# Altium integrated library Dallas Peripheral Real Time Clock.IntLib: 167 symbols (part 2 of 4)
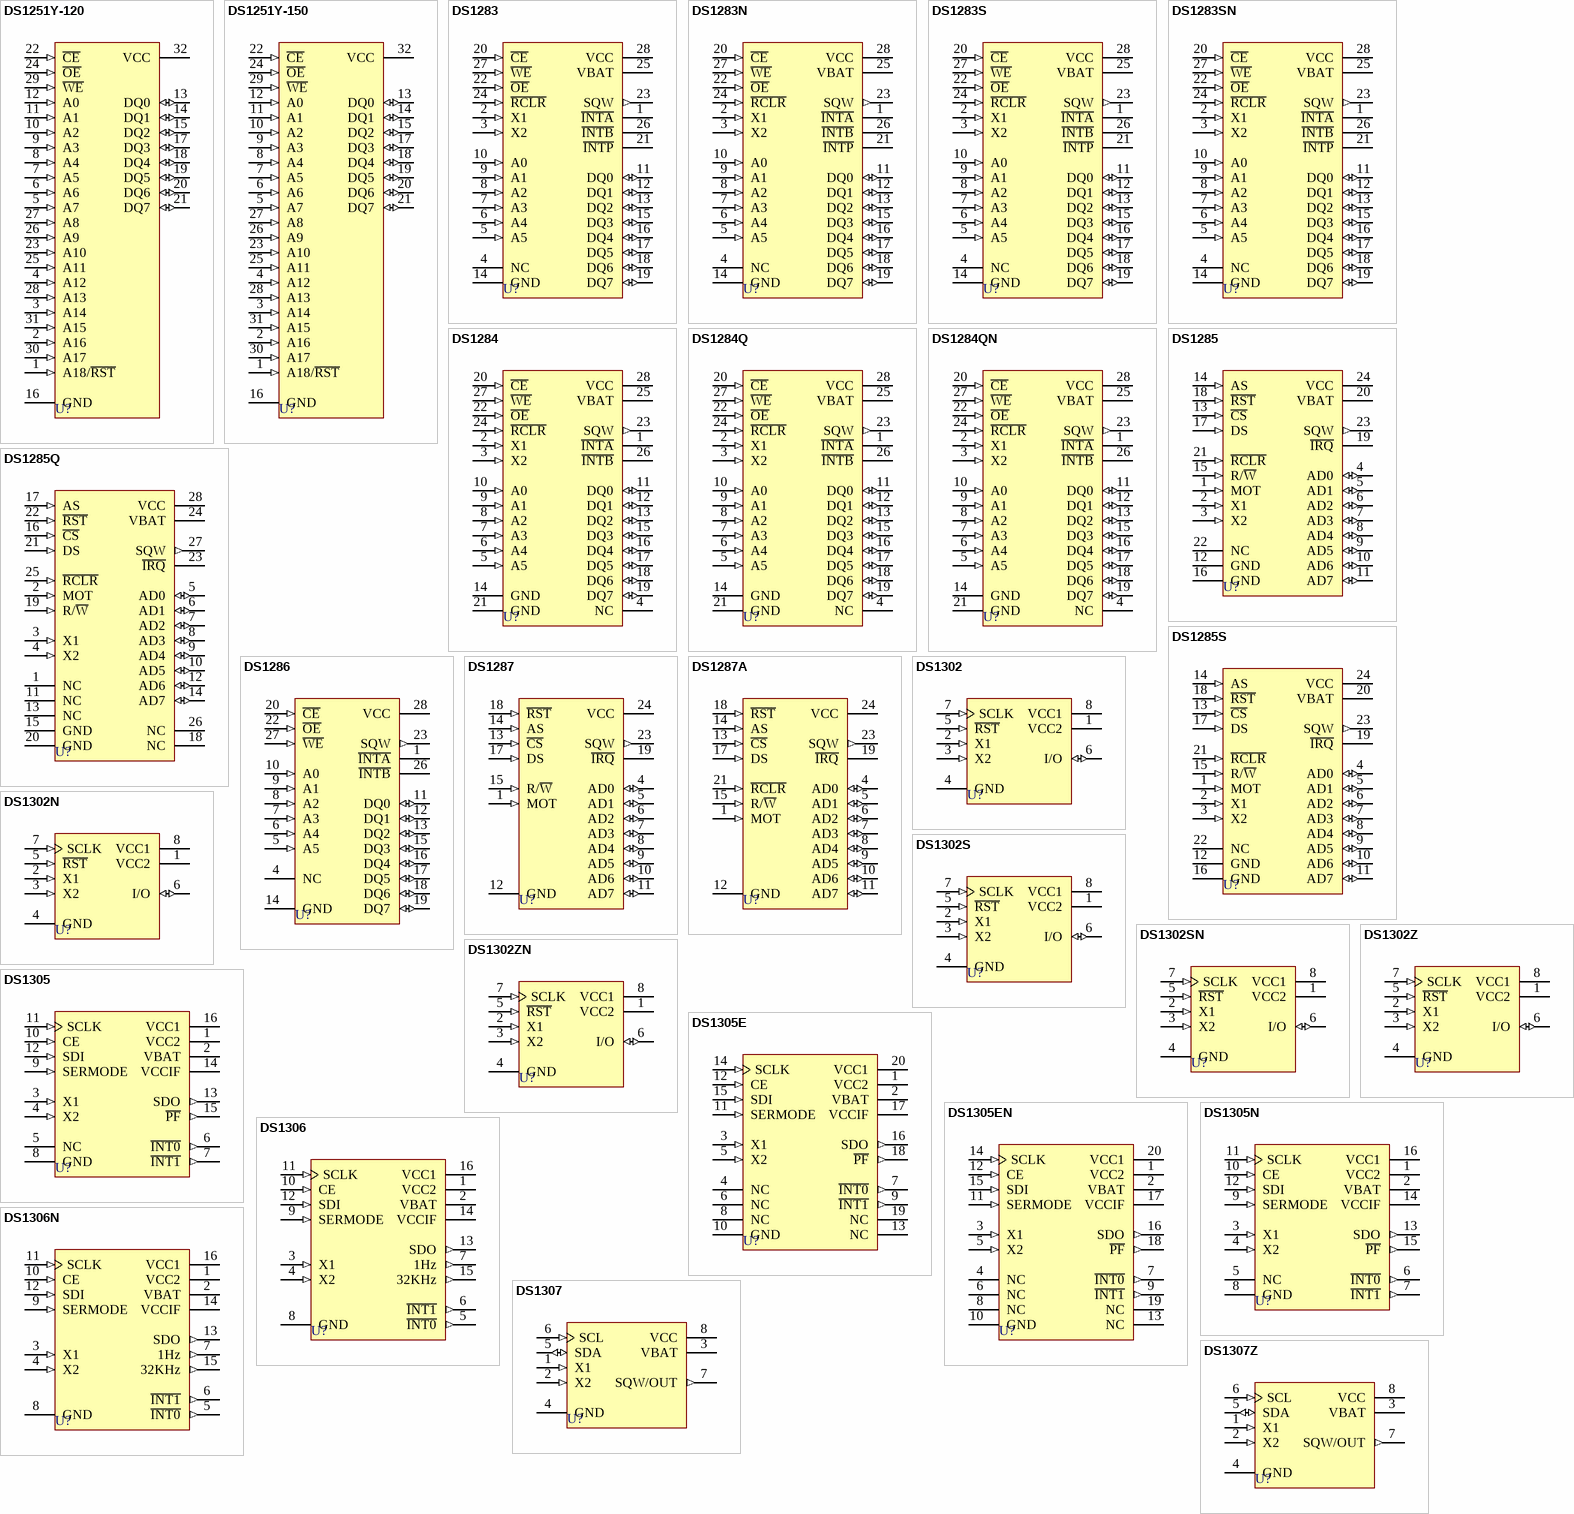
[diagram p6: symbols DS1251Y-120 to DS1307Z]

## DS1305E
designator U?
Serial Alarm Real-Time Clock; Note: Pin numbers 4, 6, 8, 13 and 19 are Not Connected (NC); Published: 13-Oct-2000; LatestRevisionDate: 06-Jun-2005; LatestRevisionNote: Stylized 3D Model Added.; DatasheetVersion: 10-Aug-1999; PackageReference: TSSOP20; Publisher: Altium Limited; PackageDescription: Shrink Small Outline; 20 Leads; Body Width 4.4 mm; Pitch 0.65 mm; ComponentLink1Description: Manufacturer Link; ComponentLink1URL: http://www.maxim-ic.com/; ComponentLink2Description: Datasheet; ComponentLink2URL: http://pdfserv.maxim-ic.com/en/ds/DS1305.pdf; ComponentLink3Description: Discontinuation Notice; ComponentLink3URL: http://www.maxim-ic.com/qa/pdfs/non-obsolescence-letter.pdf
footprint TSSOP20 (Shrink Small Outline; 20 Leads; Body Width 4.4 mm; Pitch 0.65 mm)
3D model TSSOP20 (Shrink Small Outline; 20 Leads; Body Width 4.4 mm; Pitch 0.65 mm)
pins: 1 VCC2 (power), 2 VBAT (power), 3 X1 (in), 4 NC, 5 X2 (in), 6 NC, 7 ~{INT0} (out), 8 NC, 9 ~{INT1} (out), 10 GND (power), 11 SERMODE (in), 12 CE (in), 13 NC, 14 SCLK (in), 15 SDI (in), 16 SDO (out), 17 VCCIF (power), 18 ~{PF} (out), 19 NC, 20 VCC1 (power)

## DS1305EN
designator U?
Serial Alarm Real-Time Clock; Note: Pin numbers 4, 6, 8, 13 and 19 are Not Connected (NC); Published: 13-Oct-2000; LatestRevisionDate: 06-Jun-2005; LatestRevisionNote: Stylized 3D Model Added.; DatasheetVersion: 10-Aug-1999; PackageReference: TSSOP20; Publisher: Altium Limited; PackageDescription: Shrink Small Outline; 20 Leads; Body Width 4.4 mm; Pitch 0.65 mm; ComponentLink1Description: Manufacturer Link; ComponentLink1URL: http://www.maxim-ic.com/; ComponentLink2Description: Datasheet; ComponentLink2URL: http://pdfserv.maxim-ic.com/en/ds/DS1305.pdf; ComponentLink3Description: Discontinuation Notice; ComponentLink3URL: http://www.maxim-ic.com/qa/pdfs/non-obsolescence-letter.pdf
footprint TSSOP20 (Shrink Small Outline; 20 Leads; Body Width 4.4 mm; Pitch 0.65 mm)
3D model TSSOP20 (Shrink Small Outline; 20 Leads; Body Width 4.4 mm; Pitch 0.65 mm)
pins: 1 VCC2 (power), 2 VBAT (power), 3 X1 (in), 4 NC, 5 X2 (in), 6 NC, 7 ~{INT0} (out), 8 NC, 9 ~{INT1} (out), 10 GND (power), 11 SERMODE (in), 12 CE (in), 13 NC, 14 SCLK (in), 15 SDI (in), 16 SDO (out), 17 VCCIF (power), 18 ~{PF} (out), 19 NC, 20 VCC1 (power)

## DS1305N
designator U?
Serial Alarm Real-Time Clock; Note: Pin number 5 is Not Connected (NC); Published: 13-Oct-2000; LatestRevisionDate: 06-Jun-2005; LatestRevisionNote: Stylized 3D Model Added.; DatasheetVersion: 10-Aug-1999; PackageVersion: 1999; PackageReference: DIP16; Publisher: Altium Limited; PackageDescription: DIP; 16 Leads; Row Spacing 7.62 mm; Pitch 2.54 mm; ComponentLink1Description: Manufacturer Link; ComponentLink1URL: http://www.maxim-ic.com/; ComponentLink2Description: Datasheet; ComponentLink2URL: http://pdfserv.maxim-ic.com/en/ds/DS1305.pdf; ComponentLink3Description: Discontinuation Notice; ComponentLink3URL: http://www.maxim-ic.com/qa/pdfs/non-obsolescence-letter.pdf
footprint DIP16 (DIP; 16 Leads; Row Spacing 7.62 mm; Pitch 2.54 mm)
3D model DIP16 (DIP; 16 Leads; Row Spacing 7.62 mm; Pitch 2.54 mm)
pins: 1 VCC2 (power), 2 VBAT (power), 3 X1 (in), 4 X2 (in), 5 NC, 6 ~{INT0} (out), 7 ~{INT1} (out), 8 GND (power), 9 SERMODE (in), 10 CE (in), 11 SCLK (in), 12 SDI (in), 13 SDO (out), 14 VCCIF (power), 15 ~{PF} (out), 16 VCC1 (power)

## DS1306
designator U?
Serial Alarm Real-Time Clock; Published: 13-Oct-2000; LatestRevisionDate: 06-Jun-2005; LatestRevisionNote: Stylized 3D Model Added.; DatasheetVersion: 20-Aug-1999; PackageVersion: 1999; PackageReference: DIP16; Publisher: Altium Limited; PackageDescription: DIP; 16 Leads; Row Spacing 7.62 mm; Pitch 2.54 mm; ComponentLink1Description: Manufacturer Link; ComponentLink1URL: http://www.maxim-ic.com/; ComponentLink2Description: Datasheet; ComponentLink2URL: http://pdfserv.maxim-ic.com/en/ds/DS1306.pdf; ComponentLink3Description: Discontinuation Notice; ComponentLink3URL: http://www.maxim-ic.com/qa/pdfs/non-obsolescence-letter.pdf
footprint DIP16 (DIP; 16 Leads; Row Spacing 7.62 mm; Pitch 2.54 mm)
3D model DIP16 (DIP; 16 Leads; Row Spacing 7.62 mm; Pitch 2.54 mm)
pins: 1 VCC2 (power), 2 VBAT (power), 3 X1 (in), 4 X2 (in), 5 ~{INT0} (out), 6 ~{INT1} (out), 7 1Hz (out), 8 GND (power), 9 SERMODE (in), 10 CE (in), 11 SCLK (in), 12 SDI (in), 13 SDO (out), 14 VCCIF (power), 15 32KHz (out), 16 VCC1 (power)

## DS1306N
designator U?
Serial Alarm Real-Time Clock; Published: 13-Oct-2000; LatestRevisionDate: 06-Jun-2005; LatestRevisionNote: Stylized 3D Model Added.; DatasheetVersion: 20-Aug-1999; PackageVersion: 1999; PackageReference: DIP16; Publisher: Altium Limited; PackageDescription: DIP; 16 Leads; Row Spacing 7.62 mm; Pitch 2.54 mm; ComponentLink1Description: Manufacturer Link; ComponentLink1URL: http://www.maxim-ic.com/; ComponentLink2Description: Datasheet; ComponentLink2URL: http://pdfserv.maxim-ic.com/en/ds/DS1306.pdf; ComponentLink3Description: Discontinuation Notice; ComponentLink3URL: http://www.maxim-ic.com/qa/pdfs/non-obsolescence-letter.pdf
footprint DIP16 (DIP; 16 Leads; Row Spacing 7.62 mm; Pitch 2.54 mm)
3D model DIP16 (DIP; 16 Leads; Row Spacing 7.62 mm; Pitch 2.54 mm)
pins: 1 VCC2 (power), 2 VBAT (power), 3 X1 (in), 4 X2 (in), 5 ~{INT0} (out), 6 ~{INT1} (out), 7 1Hz (out), 8 GND (power), 9 SERMODE (in), 10 CE (in), 11 SCLK (in), 12 SDI (in), 13 SDO (out), 14 VCCIF (power), 15 32KHz (out), 16 VCC1 (power)

## DS1307
designator U?
64 X 8 Serial Real-Time Clock; Published: 13-Oct-2000; LatestRevisionDate: 06-Jun-2005; LatestRevisionNote: Stylized 3D Model Added.; DatasheetVersion: 10-Aug-1999; PackageVersion: 1999; PackageReference: DIP8; Publisher: Altium Limited; PackageDescription: DIP; 8 Leads; Row Spacing 7.62 mm; Pitch 2.54 mm; ComponentLink1Description: Manufacturer Link; ComponentLink1URL: http://www.maxim-ic.com/; ComponentLink2Description: Datasheet; ComponentLink2URL: http://pdfserv.maxim-ic.com/en/ds/DS1307.pdf; ComponentLink3Description: Discontinuation Notice; ComponentLink3URL: http://www.maxim-ic.com/qa/pdfs/non-obsolescence-letter.pdf
footprint DIP8 (DIP; 8 Leads; Row Spacing 7.62 mm; Pitch 2.54 mm)
3D model DIP8 (DIP; 8 Leads; Row Spacing 7.62 mm; Pitch 2.54 mm)
pins: 1 X1 (in), 2 X2 (in), 3 VBAT (power), 4 GND (power), 5 SDA (io), 6 SCL (in), 7 SQW/OUT (out), 8 VCC (power)

## DS1307Z
designator U?
64 X 8 Serial Real-Time Clock; Published: 13-Oct-2000; LatestRevisionDate: 13-Apr-2006; LatestRevisionNote: IPC-7351 Footprint Added.; DatasheetVersion: 10-Aug-1999; PackageVersion: 1999; PackageReference: SOIC8N; Publisher: Altium Limited; PackageDescription: 8-Pin Small Outline Integrated Circuit 1.27 mm Pitch; Code_IPC: SOIC127P600-8; ComponentLink1Description: Manufacturer Link; ComponentLink1URL: http://www.maxim-ic.com/; ComponentLink2Description: Datasheet; ComponentLink2URL: http://pdfserv.maxim-ic.com/en/ds/DS1307.pdf; ComponentLink3Description: Discontinuation Notice; ComponentLink3URL: http://www.maxim-ic.com/qa/pdfs/non-obsolescence-letter.pdf
footprint SOIC8N_N (SOIC, 8-Leads, Body 4.9x3.9mm, Pitch 1.27mm, IPC Medium Density)
footprint SOIC8N_L (SOIC, 8-Leads, Body 4.9x3.9mm, Pitch 1.27mm, IPC High Density)
footprint SOIC8N_M (SOIC, 8-Leads, Body 4.9x3.9mm, Pitch 1.27mm, IPC Low Density)
3D model SOIC8N (8-Pin Small Outline Integrated Circuit 1.27 mm Pitch)
pins: 1 X1 (in), 2 X2 (in), 3 VBAT (power), 4 GND (power), 5 SDA (io), 6 SCL (in), 7 SQW/OUT (out), 8 VCC (power)

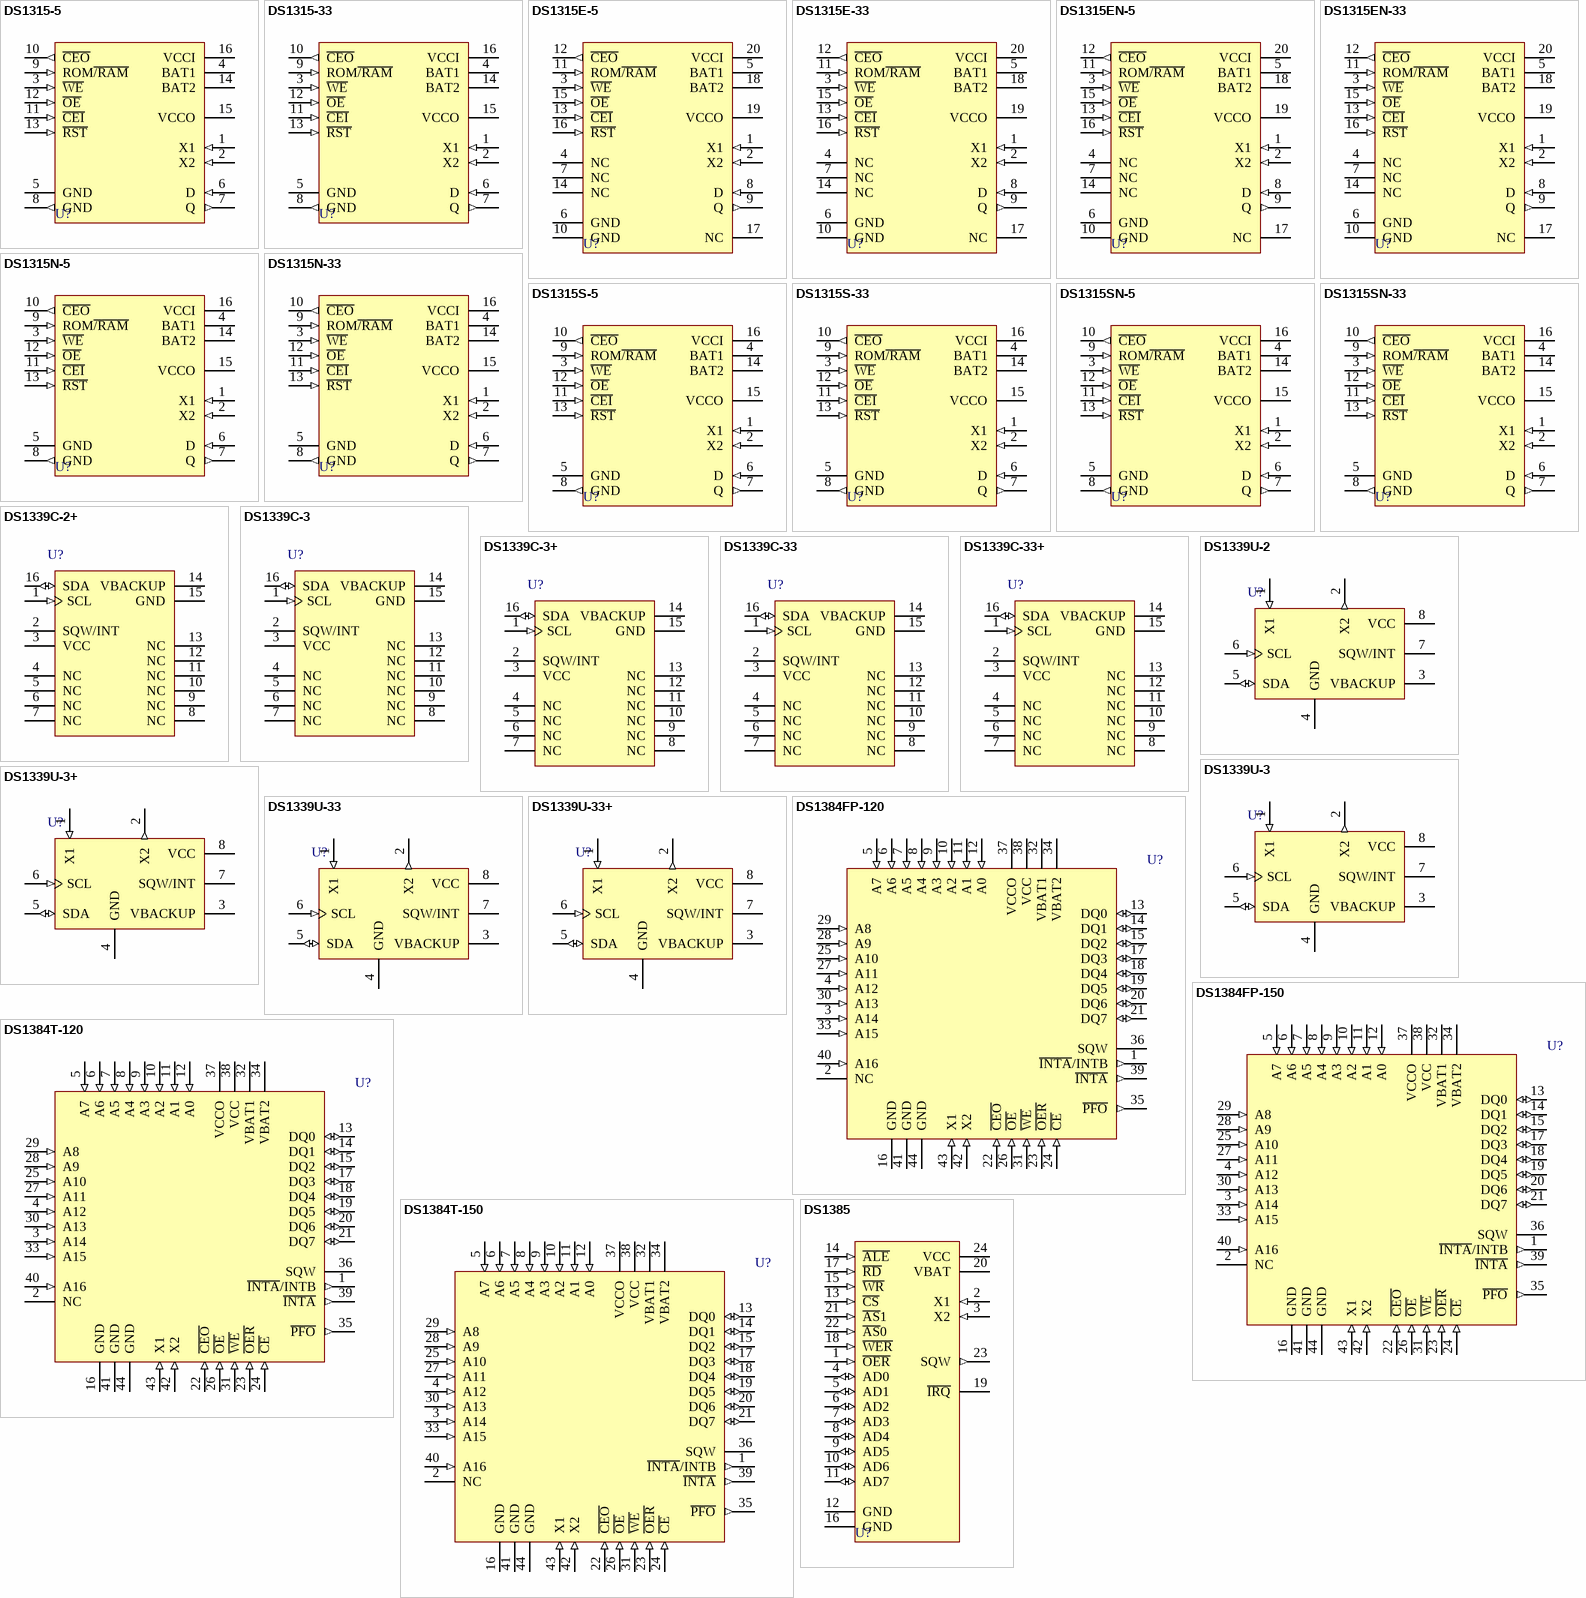
[diagram p2: symbols DS1315-5 to DS1385]

## DS1315-5
designator U?
Phantom Time Chip; Published: 13-Oct-2000; LatestRevisionDate: 06-Jun-2005; LatestRevisionNote: Stylized 3D Model Added.; DatasheetVersion: 26-Aug-1999; PackageVersion: 1999; PackageReference: DIP16; Publisher: Altium Limited; PackageDescription: DIP; 16 Leads; Row Spacing 7.62 mm; Pitch 2.54 mm; ComponentLink1Description: Manufacturer Link; ComponentLink1URL: http://www.maxim-ic.com/; ComponentLink2Description: Datasheet; ComponentLink2URL: http://pdfserv.maxim-ic.com/en/ds/DS1315.pdf
footprint DIP16 (DIP; 16 Leads; Row Spacing 7.62 mm; Pitch 2.54 mm)
3D model DIP16 (DIP; 16 Leads; Row Spacing 7.62 mm; Pitch 2.54 mm)
pins: 1 X1 (in), 2 X2 (in), 3 ~{WE} (in), 4 BAT1 (power), 5 GND (power), 6 D (in), 7 Q (out), 8 GND (out), 9 ROM~{/RAM} (in), 10 ~{CEO} (out), 11 ~{CEI} (in), 12 ~{OE} (in), 13 ~{RST} (in), 14 BAT2 (power), 15 VCCO (power), 16 VCCI (power)

## DS1315-33
designator U?
Phantom Time Chip; Published: 13-Oct-2000; LatestRevisionDate: 06-Jun-2005; LatestRevisionNote: Stylized 3D Model Added.; DatasheetVersion: 26-Aug-1999; PackageVersion: 1999; PackageReference: DIP16; Publisher: Altium Limited; PackageDescription: DIP; 16 Leads; Row Spacing 7.62 mm; Pitch 2.54 mm; ComponentLink1Description: Manufacturer Link; ComponentLink1URL: http://www.maxim-ic.com/; ComponentLink2Description: Datasheet; ComponentLink2URL: http://pdfserv.maxim-ic.com/en/ds/DS1315.pdf
footprint DIP16 (DIP; 16 Leads; Row Spacing 7.62 mm; Pitch 2.54 mm)
3D model DIP16 (DIP; 16 Leads; Row Spacing 7.62 mm; Pitch 2.54 mm)
pins: 1 X1 (in), 2 X2 (in), 3 ~{WE} (in), 4 BAT1 (power), 5 GND (power), 6 D (in), 7 Q (out), 8 GND (out), 9 ROM~{/RAM} (in), 10 ~{CEO} (out), 11 ~{CEI} (in), 12 ~{OE} (in), 13 ~{RST} (in), 14 BAT2 (power), 15 VCCO (power), 16 VCCI (power)

## DS1315E-5
designator U?
Phantom Time Chip; Note: Pin numbers 4, 7, 14 and 17 are Not Connected (NC); Published: 13-Oct-2000; LatestRevisionDate: 06-Jun-2005; LatestRevisionNote: Stylized 3D Model Added.; DatasheetVersion: 26-Aug-1999; PackageReference: TSSOP20; Publisher: Altium Limited; PackageDescription: Shrink Small Outline; 20 Leads; Body Width 4.4 mm; Pitch 0.65 mm; ComponentLink1Description: Manufacturer Link; ComponentLink1URL: http://www.maxim-ic.com/; ComponentLink2Description: Datasheet; ComponentLink2URL: http://pdfserv.maxim-ic.com/en/ds/DS1315.pdf
footprint TSSOP20 (Shrink Small Outline; 20 Leads; Body Width 4.4 mm; Pitch 0.65 mm)
3D model TSSOP20 (Shrink Small Outline; 20 Leads; Body Width 4.4 mm; Pitch 0.65 mm)
pins: 1 X1 (in), 2 X2 (in), 3 ~{WE} (in), 4 NC, 5 BAT1 (power), 6 GND (power), 7 NC, 8 D (in), 9 Q (out), 10 GND (power), 11 ROM~{/RAM} (in), 12 ~{CEO} (out), 13 ~{CEI} (in), 14 NC, 15 ~{OE} (in), 16 ~{RST} (in), 17 NC, 18 BAT2 (power), 19 VCCO (power), 20 VCCI (power)

## DS1315E-33
designator U?
Phantom Time Chip; Note: Pin numbers 4, 7, 14 and 17 are Not Connected (NC); Published: 13-Oct-2000; LatestRevisionDate: 06-Jun-2005; LatestRevisionNote: Stylized 3D Model Added.; DatasheetVersion: 26-Aug-1999; PackageReference: TSSOP20; Publisher: Altium Limited; PackageDescription: Shrink Small Outline; 20 Leads; Body Width 4.4 mm; Pitch 0.65 mm; ComponentLink1Description: Manufacturer Link; ComponentLink1URL: http://www.maxim-ic.com/; ComponentLink2Description: Datasheet; ComponentLink2URL: http://pdfserv.maxim-ic.com/en/ds/DS1315.pdf
footprint TSSOP20 (Shrink Small Outline; 20 Leads; Body Width 4.4 mm; Pitch 0.65 mm)
3D model TSSOP20 (Shrink Small Outline; 20 Leads; Body Width 4.4 mm; Pitch 0.65 mm)
pins: 1 X1 (in), 2 X2 (in), 3 ~{WE} (in), 4 NC, 5 BAT1 (power), 6 GND (power), 7 NC, 8 D (in), 9 Q (out), 10 GND (power), 11 ROM~{/RAM} (in), 12 ~{CEO} (out), 13 ~{CEI} (in), 14 NC, 15 ~{OE} (in), 16 ~{RST} (in), 17 NC, 18 BAT2 (power), 19 VCCO (power), 20 VCCI (power)

## DS1315EN-5
designator U?
Phantom Time Chip; Note: Pin numbers 4, 7, 14 and 17 are Not Connected (NC); Published: 13-Oct-2000; LatestRevisionDate: 06-Jun-2005; LatestRevisionNote: Stylized 3D Model Added.; DatasheetVersion: 26-Aug-1999; PackageReference: TSSOP20; Publisher: Altium Limited; PackageDescription: Shrink Small Outline; 20 Leads; Body Width 4.4 mm; Pitch 0.65 mm; ComponentLink1Description: Manufacturer Link; ComponentLink1URL: http://www.maxim-ic.com/; ComponentLink2Description: Datasheet; ComponentLink2URL: http://pdfserv.maxim-ic.com/en/ds/DS1315.pdf
footprint TSSOP20 (Shrink Small Outline; 20 Leads; Body Width 4.4 mm; Pitch 0.65 mm)
3D model TSSOP20 (Shrink Small Outline; 20 Leads; Body Width 4.4 mm; Pitch 0.65 mm)
pins: 1 X1 (in), 2 X2 (in), 3 ~{WE} (in), 4 NC, 5 BAT1 (power), 6 GND (power), 7 NC, 8 D (in), 9 Q (out), 10 GND (power), 11 ROM~{/RAM} (in), 12 ~{CEO} (out), 13 ~{CEI} (in), 14 NC, 15 ~{OE} (in), 16 ~{RST} (in), 17 NC, 18 BAT2 (power), 19 VCCO (power), 20 VCCI (power)

## DS1315EN-33
designator U?
Phantom Time Chip; Note: Pin numbers 4, 7, 14 and 17 are Not Connected (NC); Published: 13-Oct-2000; LatestRevisionDate: 06-Jun-2005; LatestRevisionNote: Stylized 3D Model Added.; DatasheetVersion: 26-Aug-1999; PackageReference: TSSOP20; Publisher: Altium Limited; PackageDescription: Shrink Small Outline; 20 Leads; Body Width 4.4 mm; Pitch 0.65 mm; ComponentLink1Description: Manufacturer Link; ComponentLink1URL: http://www.maxim-ic.com/; ComponentLink2Description: Datasheet; ComponentLink2URL: http://pdfserv.maxim-ic.com/en/ds/DS1315.pdf
footprint TSSOP20 (Shrink Small Outline; 20 Leads; Body Width 4.4 mm; Pitch 0.65 mm)
3D model TSSOP20 (Shrink Small Outline; 20 Leads; Body Width 4.4 mm; Pitch 0.65 mm)
pins: 1 X1 (in), 2 X2 (in), 3 ~{WE} (in), 4 NC, 5 BAT1 (power), 6 GND (power), 7 NC, 8 D (in), 9 Q (out), 10 GND (power), 11 ROM~{/RAM} (in), 12 ~{CEO} (out), 13 ~{CEI} (in), 14 NC, 15 ~{OE} (in), 16 ~{RST} (in), 17 NC, 18 BAT2 (power), 19 VCCO (power), 20 VCCI (power)

## DS1315N-5
designator U?
Phantom Time Chip; Published: 13-Oct-2000; LatestRevisionDate: 06-Jun-2005; LatestRevisionNote: Stylized 3D Model Added.; DatasheetVersion: 26-Aug-1999; PackageVersion: 1999; PackageReference: DIP16; Publisher: Altium Limited; PackageDescription: DIP; 16 Leads; Row Spacing 7.62 mm; Pitch 2.54 mm; ComponentLink1Description: Manufacturer Link; ComponentLink1URL: http://www.maxim-ic.com/; ComponentLink2Description: Datasheet; ComponentLink2URL: http://pdfserv.maxim-ic.com/en/ds/DS1315.pdf
footprint DIP16 (DIP; 16 Leads; Row Spacing 7.62 mm; Pitch 2.54 mm)
3D model DIP16 (DIP; 16 Leads; Row Spacing 7.62 mm; Pitch 2.54 mm)
pins: 1 X1 (in), 2 X2 (in), 3 ~{WE} (in), 4 BAT1 (power), 5 GND (power), 6 D (in), 7 Q (out), 8 GND (out), 9 ROM~{/RAM} (in), 10 ~{CEO} (out), 11 ~{CEI} (in), 12 ~{OE} (in), 13 ~{RST} (in), 14 BAT2 (power), 15 VCCO (power), 16 VCCI (power)

## DS1315N-33
designator U?
Phantom Time Chip; Published: 13-Oct-2000; LatestRevisionDate: 06-Jun-2005; LatestRevisionNote: Stylized 3D Model Added.; DatasheetVersion: 26-Aug-1999; PackageVersion: 1999; PackageReference: DIP16; Publisher: Altium Limited; PackageDescription: DIP; 16 Leads; Row Spacing 7.62 mm; Pitch 2.54 mm; ComponentLink1Description: Manufacturer Link; ComponentLink1URL: http://www.maxim-ic.com/; ComponentLink2Description: Datasheet; ComponentLink2URL: http://pdfserv.maxim-ic.com/en/ds/DS1315.pdf
footprint DIP16 (DIP; 16 Leads; Row Spacing 7.62 mm; Pitch 2.54 mm)
3D model DIP16 (DIP; 16 Leads; Row Spacing 7.62 mm; Pitch 2.54 mm)
pins: 1 X1 (in), 2 X2 (in), 3 ~{WE} (in), 4 BAT1 (power), 5 GND (power), 6 D (in), 7 Q (out), 8 GND (out), 9 ROM~{/RAM} (in), 10 ~{CEO} (out), 11 ~{CEI} (in), 12 ~{OE} (in), 13 ~{RST} (in), 14 BAT2 (power), 15 VCCO (power), 16 VCCI (power)

## DS1315S-5
designator U?
Phantom Time Chip; Published: 13-Oct-2000; LatestRevisionDate: 13-Apr-2006; LatestRevisionNote: IPC-7351 Footprint Added.; DatasheetVersion: 26-Aug-1999; PackageVersion: 1994; PackageReference: SOIC16WA; Publisher: Altium Limited; PackageDescription: 16-Pin Small Outline Integrated Circuit 1.27 mm Pitch; ComponentLink1Description: Manufacturer Link; ComponentLink1URL: http://www.maxim-ic.com/; ComponentLink2Description: Datasheet; ComponentLink2URL: http://pdfserv.maxim-ic.com/en/ds/DS1315.pdf
footprint SOIC16WA_N (SOIC, 16-Leads, Body 10.3x7.5mm, Pitch 1.27mm, IPC Medium Density)
footprint SOIC16WA_L (SOIC, 16-Leads, Body 10.3x7.5mm, Pitch 1.27mm, IPC High Density)
footprint SOIC16WA_M (SOIC, 16-Leads, Body 10.3x7.5mm, Pitch 1.27mm, IPC Low Density)
3D model SOIC16WA (16-Pin Small Outline Integrated Circuit 1.27 mm Pitch)
pins: 1 X1 (in), 2 X2 (in), 3 ~{WE} (in), 4 BAT1 (power), 5 GND (power), 6 D (in), 7 Q (out), 8 GND (out), 9 ROM~{/RAM} (in), 10 ~{CEO} (out), 11 ~{CEI} (in), 12 ~{OE} (in), 13 ~{RST} (in), 14 BAT2 (power), 15 VCCO (power), 16 VCCI (power)

## DS1315S-33
designator U?
Phantom Time Chip; Published: 13-Oct-2000; LatestRevisionDate: 13-Apr-2006; LatestRevisionNote: IPC-7351 Footprint Added.; DatasheetVersion: 26-Aug-1999; PackageVersion: 1994; PackageReference: SOIC16WA; Publisher: Altium Limited; PackageDescription: 16-Pin Small Outline Integrated Circuit 1.27 mm Pitch; ComponentLink1Description: Manufacturer Link; ComponentLink1URL: http://www.maxim-ic.com/; ComponentLink2Description: Datasheet; ComponentLink2URL: http://pdfserv.maxim-ic.com/en/ds/DS1315.pdf
footprint SOIC16WA_N (SOIC, 16-Leads, Body 10.3x7.5mm, Pitch 1.27mm, IPC Medium Density)
footprint SOIC16WA_L (SOIC, 16-Leads, Body 10.3x7.5mm, Pitch 1.27mm, IPC High Density)
footprint SOIC16WA_M (SOIC, 16-Leads, Body 10.3x7.5mm, Pitch 1.27mm, IPC Low Density)
3D model SOIC16WA (16-Pin Small Outline Integrated Circuit 1.27 mm Pitch)
pins: 1 X1 (in), 2 X2 (in), 3 ~{WE} (in), 4 BAT1 (power), 5 GND (power), 6 D (in), 7 Q (out), 8 GND (out), 9 ROM~{/RAM} (in), 10 ~{CEO} (out), 11 ~{CEI} (in), 12 ~{OE} (in), 13 ~{RST} (in), 14 BAT2 (power), 15 VCCO (power), 16 VCCI (power)

## DS1315SN-5
designator U?
Phantom Time Chip; Published: 13-Oct-2000; LatestRevisionDate: 13-Apr-2006; LatestRevisionNote: IPC-7351 Footprint Added.; DatasheetVersion: 26-Aug-1999; PackageVersion: 1994; PackageReference: SOIC16WA; Publisher: Altium Limited; PackageDescription: 16-Pin Small Outline Integrated Circuit 1.27 mm Pitch; ComponentLink1Description: Manufacturer Link; ComponentLink1URL: http://www.maxim-ic.com/; ComponentLink2Description: Datasheet; ComponentLink2URL: http://pdfserv.maxim-ic.com/en/ds/DS1315.pdf
footprint SOIC16WA_N (SOIC, 16-Leads, Body 10.3x7.5mm, Pitch 1.27mm, IPC Medium Density)
footprint SOIC16WA_L (SOIC, 16-Leads, Body 10.3x7.5mm, Pitch 1.27mm, IPC High Density)
footprint SOIC16WA_M (SOIC, 16-Leads, Body 10.3x7.5mm, Pitch 1.27mm, IPC Low Density)
3D model SOIC16WA (16-Pin Small Outline Integrated Circuit 1.27 mm Pitch)
pins: 1 X1 (in), 2 X2 (in), 3 ~{WE} (in), 4 BAT1 (power), 5 GND (power), 6 D (in), 7 Q (out), 8 GND (out), 9 ROM~{/RAM} (in), 10 ~{CEO} (out), 11 ~{CEI} (in), 12 ~{OE} (in), 13 ~{RST} (in), 14 BAT2 (power), 15 VCCO (power), 16 VCCI (power)

## DS1315SN-33
designator U?
Phantom Time Chip; Published: 13-Oct-2000; LatestRevisionDate: 13-Apr-2006; LatestRevisionNote: IPC-7351 Footprint Added.; DatasheetVersion: 26-Aug-1999; PackageVersion: 1994; PackageReference: SOIC16WA; Publisher: Altium Limited; PackageDescription: 16-Pin Small Outline Integrated Circuit 1.27 mm Pitch; ComponentLink1Description: Manufacturer Link; ComponentLink1URL: http://www.maxim-ic.com/; ComponentLink2Description: Datasheet; ComponentLink2URL: http://pdfserv.maxim-ic.com/en/ds/DS1315.pdf
footprint SOIC16WA_N (SOIC, 16-Leads, Body 10.3x7.5mm, Pitch 1.27mm, IPC Medium Density)
footprint SOIC16WA_L (SOIC, 16-Leads, Body 10.3x7.5mm, Pitch 1.27mm, IPC High Density)
footprint SOIC16WA_M (SOIC, 16-Leads, Body 10.3x7.5mm, Pitch 1.27mm, IPC Low Density)
3D model SOIC16WA (16-Pin Small Outline Integrated Circuit 1.27 mm Pitch)
pins: 1 X1 (in), 2 X2 (in), 3 ~{WE} (in), 4 BAT1 (power), 5 GND (power), 6 D (in), 7 Q (out), 8 GND (out), 9 ROM~{/RAM} (in), 10 ~{CEO} (out), 11 ~{CEI} (in), 12 ~{OE} (in), 13 ~{RST} (in), 14 BAT2 (power), 15 VCCO (power), 16 VCCI (power)

## DS1339C-2+
designator U?
I2C Serial Real-Time Clock (RTC) with Integrated Crystal, 2.0V, 16-Pin 0.3" SOIC, Pb-Free; Published: 6-Oct-2005; LatestRevisionDate: 13-Apr-2006; LatestRevisionNote: IPC-7351 Footprint Added.; DatasheetVersion: rev.071205; PackageVersion: Jul-2002; PackageReference: 16SO.300; Publisher: Altium Limited; PackageDescription: 16-Pin Small Outline Integrated Circuit 1.27 mm Pitch; Code_JEDEC: MS-013-AA; Code_IPC: SOIC127P1030-16; ComponentLink1Description: Manufacturer Link; ComponentLink1URL: http://www.maxim-ic.com/quick_view2.cfm/qv_pk/3470; ComponentLink2Description: Datasheet; ComponentLink2URL: http://pdfserv.maxim-ic.com/en/ds/DS1339-DS1339U.pdf
footprint 16SO.300_N (SOIC, 16-Leads, Body 10.3x7.5mm, Pitch 1.27mm, IPC Medium Density)
footprint 16SO.300_L (SOIC, 16-Leads, Body 10.3x7.5mm, Pitch 1.27mm, IPC High Density)
footprint 16SO.300_M (SOIC, 16-Leads, Body 10.3x7.5mm, Pitch 1.27mm, IPC Low Density)
3D model 16SO_300 (16-Pin Small Outline Integrated Circuit 1.27 mm Pitch)
pins: 1 SCL (in) "Serial Clock Input", 2 SQW/INT (oc) "Square-Wave/Interrupt Output. Requires external pullup resistor.", 3 VCC (power) "Power Supply", 4 NC "Not Connected", 5 NC "Not Connected", 6 NC "Not Connected", 7 NC "Not Connected", 8 NC "Not Connected", 9 NC "Not Connected", 10 NC "Not Connected", 11 NC "Not Connected", 12 NC "Not Connected", 13 NC "Not Connected", 14 VBACKUP (power) "Secondary Power Supply. Hold between 1.3 & 3.7V. Ground if not required.", 15 GND (power) "Ground", 16 SDA (io) "Serial Data Input/Output. Requires external pullup resistor."

## DS1339C-3
designator U?
I2C Serial Real-Time Clock (RTC) with Integrated Crystal, 3.0V, 16-Pin 0.3" SOIC; Published: 6-Oct-2005; LatestRevisionDate: 13-Apr-2006; LatestRevisionNote: IPC-7351 Footprint Added.; DatasheetVersion: rev.071205; PackageVersion: Jul-2002; PackageReference: 16SO.300; Publisher: Altium Limited; PackageDescription: 16-Pin Small Outline Integrated Circuit 1.27 mm Pitch; Code_JEDEC: MS-013-AA; Code_IPC: SOIC127P1030-16; ComponentLink1Description: Manufacturer Link; ComponentLink1URL: http://www.maxim-ic.com/quick_view2.cfm/qv_pk/3470; ComponentLink2Description: Datasheet; ComponentLink2URL: http://pdfserv.maxim-ic.com/en/ds/DS1339-DS1339U.pdf
footprint 16SO.300_N (SOIC, 16-Leads, Body 10.3x7.5mm, Pitch 1.27mm, IPC Medium Density)
footprint 16SO.300_L (SOIC, 16-Leads, Body 10.3x7.5mm, Pitch 1.27mm, IPC High Density)
footprint 16SO.300_M (SOIC, 16-Leads, Body 10.3x7.5mm, Pitch 1.27mm, IPC Low Density)
3D model 16SO_300 (16-Pin Small Outline Integrated Circuit 1.27 mm Pitch)
pins: 1 SCL (in) "Serial Clock Input", 2 SQW/INT (oc) "Square-Wave/Interrupt Output. Requires external pullup resistor.", 3 VCC (power) "Power Supply", 4 NC "Not Connected", 5 NC "Not Connected", 6 NC "Not Connected", 7 NC "Not Connected", 8 NC "Not Connected", 9 NC "Not Connected", 10 NC "Not Connected", 11 NC "Not Connected", 12 NC "Not Connected", 13 NC "Not Connected", 14 VBACKUP (power) "Secondary Power Supply. Hold between 1.3 & 3.7V. Ground if not required.", 15 GND (power) "Ground", 16 SDA (io) "Serial Data Input/Output. Requires external pullup resistor."

## DS1339C-3+
designator U?
I2C Serial Real-Time Clock (RTC) with Integrated Crystal, 3.0V, 16-Pin 0.3" SOIC, Pb-Free; Published: 6-Oct-2005; LatestRevisionDate: 13-Apr-2006; LatestRevisionNote: IPC-7351 Footprint Added.; DatasheetVersion: rev.071205; PackageVersion: Jul-2002; PackageReference: 16SO.300; Publisher: Altium Limited; PackageDescription: 16-Pin Small Outline Integrated Circuit 1.27 mm Pitch; Code_JEDEC: MS-013-AA; Code_IPC: SOIC127P1030-16; ComponentLink1Description: Manufacturer Link; ComponentLink1URL: http://www.maxim-ic.com/quick_view2.cfm/qv_pk/3470; ComponentLink2Description: Datasheet; ComponentLink2URL: http://pdfserv.maxim-ic.com/en/ds/DS1339-DS1339U.pdf
footprint 16SO.300_N (SOIC, 16-Leads, Body 10.3x7.5mm, Pitch 1.27mm, IPC Medium Density)
footprint 16SO.300_L (SOIC, 16-Leads, Body 10.3x7.5mm, Pitch 1.27mm, IPC High Density)
footprint 16SO.300_M (SOIC, 16-Leads, Body 10.3x7.5mm, Pitch 1.27mm, IPC Low Density)
3D model 16SO_300 (16-Pin Small Outline Integrated Circuit 1.27 mm Pitch)
pins: 1 SCL (in) "Serial Clock Input", 2 SQW/INT (oc) "Square-Wave/Interrupt Output. Requires external pullup resistor.", 3 VCC (power) "Power Supply", 4 NC "Not Connected", 5 NC "Not Connected", 6 NC "Not Connected", 7 NC "Not Connected", 8 NC "Not Connected", 9 NC "Not Connected", 10 NC "Not Connected", 11 NC "Not Connected", 12 NC "Not Connected", 13 NC "Not Connected", 14 VBACKUP (power) "Secondary Power Supply. Hold between 1.3 & 3.7V. Ground if not required.", 15 GND (power) "Ground", 16 SDA (io) "Serial Data Input/Output. Requires external pullup resistor."

## DS1339C-33
designator U?
I2C Serial Real-Time Clock (RTC) with Integrated Crystal, 3.3V, 16-Pin 0.3" SOIC; Published: 6-Oct-2005; LatestRevisionDate: 13-Apr-2006; LatestRevisionNote: IPC-7351 Footprint Added.; DatasheetVersion: rev.071205; PackageVersion: Jul-2002; PackageReference: 16SO.300; Publisher: Altium Limited; PackageDescription: 16-Pin Small Outline Integrated Circuit 1.27 mm Pitch; Code_JEDEC: MS-013-AA; Code_IPC: SOIC127P1030-16; ComponentLink1Description: Manufacturer Link; ComponentLink1URL: http://www.maxim-ic.com/quick_view2.cfm/qv_pk/3470; ComponentLink2Description: Datasheet; ComponentLink2URL: http://pdfserv.maxim-ic.com/en/ds/DS1339-DS1339U.pdf
footprint 16SO.300_N (SOIC, 16-Leads, Body 10.3x7.5mm, Pitch 1.27mm, IPC Medium Density)
footprint 16SO.300_L (SOIC, 16-Leads, Body 10.3x7.5mm, Pitch 1.27mm, IPC High Density)
footprint 16SO.300_M (SOIC, 16-Leads, Body 10.3x7.5mm, Pitch 1.27mm, IPC Low Density)
3D model 16SO_300 (16-Pin Small Outline Integrated Circuit 1.27 mm Pitch)
pins: 1 SCL (in) "Serial Clock Input", 2 SQW/INT (oc) "Square-Wave/Interrupt Output. Requires external pullup resistor.", 3 VCC (power) "Power Supply", 4 NC "Not Connected", 5 NC "Not Connected", 6 NC "Not Connected", 7 NC "Not Connected", 8 NC "Not Connected", 9 NC "Not Connected", 10 NC "Not Connected", 11 NC "Not Connected", 12 NC "Not Connected", 13 NC "Not Connected", 14 VBACKUP (power) "Secondary Power Supply. Hold between 1.3 & 3.7V. Ground if not required.", 15 GND (power) "Ground", 16 SDA (io) "Serial Data Input/Output. Requires external pullup resistor."

## DS1339C-33+
designator U?
I2C Serial Real-Time Clock (RTC) with Integrated Crystal, 3.3V, 16-Pin 0.3" SOIC, Pb-Free; Published: 6-Oct-2005; LatestRevisionDate: 13-Apr-2006; LatestRevisionNote: IPC-7351 Footprint Added.; DatasheetVersion: rev.071205; PackageVersion: Jul-2002; PackageReference: 16SO.300; Publisher: Altium Limited; PackageDescription: 16-Pin Small Outline Integrated Circuit 1.27 mm Pitch; Code_JEDEC: MS-013-AA; Code_IPC: SOIC127P1030-16; ComponentLink1Description: Manufacturer Link; ComponentLink1URL: http://www.maxim-ic.com/quick_view2.cfm/qv_pk/3470; ComponentLink2Description: Datasheet; ComponentLink2URL: http://pdfserv.maxim-ic.com/en/ds/DS1339-DS1339U.pdf
footprint 16SO.300_N (SOIC, 16-Leads, Body 10.3x7.5mm, Pitch 1.27mm, IPC Medium Density)
footprint 16SO.300_L (SOIC, 16-Leads, Body 10.3x7.5mm, Pitch 1.27mm, IPC High Density)
footprint 16SO.300_M (SOIC, 16-Leads, Body 10.3x7.5mm, Pitch 1.27mm, IPC Low Density)
3D model 16SO_300 (16-Pin Small Outline Integrated Circuit 1.27 mm Pitch)
pins: 1 SCL (in) "Serial Clock Input", 2 SQW/INT (oc) "Square-Wave/Interrupt Output. Requires external pullup resistor.", 3 VCC (power) "Power Supply", 4 NC "Not Connected", 5 NC "Not Connected", 6 NC "Not Connected", 7 NC "Not Connected", 8 NC "Not Connected", 9 NC "Not Connected", 10 NC "Not Connected", 11 NC "Not Connected", 12 NC "Not Connected", 13 NC "Not Connected", 14 VBACKUP (power) "Secondary Power Supply. Hold between 1.3 & 3.7V. Ground if not required.", 15 GND (power) "Ground", 16 SDA (io) "Serial Data Input/Output. Requires external pullup resistor."

## DS1339U-2
designator U?
I2C Serial Real-Time Clock (RTC), 2.0V, 8-Pin uMax/uSOP; Published: 6-Oct-2005; DatasheetVersion: rev.071205; PackageVersion: Mar-2002; PackageReference: 8uSOP; Publisher: Altium Limited; PackageDescription: Shrink Small Outline; 8 Leads; Body Width 3 mm; Pitch 0.65 mm; Code_JEDEC: MO-187C-AA; ComponentLink1Description: Manufacturer Link; ComponentLink1URL: http://www.maxim-ic.com/quick_view2.cfm/qv_pk/3470; ComponentLink2Description: Datasheet; ComponentLink2URL: http://pdfserv.maxim-ic.com/en/ds/DS1339-DS1339U.pdf
footprint 8uSOP (Shrink Small Outline; 8 Leads; Body Width 3 mm; Pitch 0.65 mm)
3D model 8uSOP (Shrink Small Outline; 8 Leads; Body Width 3 mm; Pitch 0.65 mm)
pins: 1 X1 (in) "Connection for 32.768kHz Quartz Crystal or external oscillator.", 2 X2 (out) "Connection for 32.768kHz Quartz Crystal.", 3 VBACKUP (power) "Secondary Power Supply. Hold between 1.3 & 3.7V. Ground if not required.", 4 GND (power) "Ground", 5 SDA (io) "Serial Data Input/Output. Requires external pullup resistor.", 6 SCL (in) "Serial Clock Input", 7 SQW/INT (oc) "Square-Wave/Interrupt Output. Requires external pullup resistor.", 8 VCC (power) "Power Supply"

## DS1339U-3
designator U?
I2C Serial Real-Time Clock (RTC), 3.0V, 8-Pin uMax/uSOP; Published: 6-Oct-2005; DatasheetVersion: rev.071205; PackageVersion: Mar-2002; PackageReference: 8uSOP; Publisher: Altium Limited; PackageDescription: Shrink Small Outline; 8 Leads; Body Width 3 mm; Pitch 0.65 mm; Code_JEDEC: MO-187C-AA; ComponentLink1Description: Manufacturer Link; ComponentLink1URL: http://www.maxim-ic.com/quick_view2.cfm/qv_pk/3470; ComponentLink2Description: Datasheet; ComponentLink2URL: http://pdfserv.maxim-ic.com/en/ds/DS1339-DS1339U.pdf
footprint 8uSOP (Shrink Small Outline; 8 Leads; Body Width 3 mm; Pitch 0.65 mm)
3D model 8uSOP (Shrink Small Outline; 8 Leads; Body Width 3 mm; Pitch 0.65 mm)
pins: 1 X1 (in) "Connection for 32.768kHz Quartz Crystal or external oscillator.", 2 X2 (out) "Connection for 32.768kHz Quartz Crystal.", 3 VBACKUP (power) "Secondary Power Supply. Hold between 1.3 & 3.7V. Ground if not required.", 4 GND (power) "Ground", 5 SDA (io) "Serial Data Input/Output. Requires external pullup resistor.", 6 SCL (in) "Serial Clock Input", 7 SQW/INT (oc) "Square-Wave/Interrupt Output. Requires external pullup resistor.", 8 VCC (power) "Power Supply"

## DS1339U-3+
designator U?
I2C Serial Real-Time Clock (RTC), 3.0V, 8-Pin uMax/uSOP, Pb-Free; Published: 6-Oct-2005; DatasheetVersion: rev.071205; PackageVersion: Mar-2002; PackageReference: 8uSOP; Publisher: Altium Limited; PackageDescription: Shrink Small Outline; 8 Leads; Body Width 3 mm; Pitch 0.65 mm; Code_JEDEC: MO-187C-AA; ComponentLink1Description: Manufacturer Link; ComponentLink1URL: http://www.maxim-ic.com/quick_view2.cfm/qv_pk/3470; ComponentLink2Description: Datasheet; ComponentLink2URL: http://pdfserv.maxim-ic.com/en/ds/DS1339-DS1339U.pdf
footprint 8uSOP (Shrink Small Outline; 8 Leads; Body Width 3 mm; Pitch 0.65 mm)
3D model 8uSOP (Shrink Small Outline; 8 Leads; Body Width 3 mm; Pitch 0.65 mm)
pins: 1 X1 (in) "Connection for 32.768kHz Quartz Crystal or external oscillator.", 2 X2 (out) "Connection for 32.768kHz Quartz Crystal.", 3 VBACKUP (power) "Secondary Power Supply. Hold between 1.3 & 3.7V. Ground if not required.", 4 GND (power) "Ground", 5 SDA (io) "Serial Data Input/Output. Requires external pullup resistor.", 6 SCL (in) "Serial Clock Input", 7 SQW/INT (oc) "Square-Wave/Interrupt Output. Requires external pullup resistor.", 8 VCC (power) "Power Supply"

## DS1339U-33
designator U?
I2C Serial Real-Time Clock (RTC), 3.3V, 8-Pin uMax/uSOP; Published: 6-Oct-2005; DatasheetVersion: rev.071205; PackageVersion: Mar-2002; PackageReference: 8uSOP; Publisher: Altium Limited; PackageDescription: Shrink Small Outline; 8 Leads; Body Width 3 mm; Pitch 0.65 mm; Code_JEDEC: MO-187C-AA; ComponentLink1Description: Manufacturer Link; ComponentLink1URL: http://www.maxim-ic.com/quick_view2.cfm/qv_pk/3470; ComponentLink2Description: Datasheet; ComponentLink2URL: http://pdfserv.maxim-ic.com/en/ds/DS1339-DS1339U.pdf
footprint 8uSOP (Shrink Small Outline; 8 Leads; Body Width 3 mm; Pitch 0.65 mm)
3D model 8uSOP (Shrink Small Outline; 8 Leads; Body Width 3 mm; Pitch 0.65 mm)
pins: 1 X1 (in) "Connection for 32.768kHz Quartz Crystal or external oscillator.", 2 X2 (out) "Connection for 32.768kHz Quartz Crystal.", 3 VBACKUP (power) "Secondary Power Supply. Hold between 1.3 & 3.7V. Ground if not required.", 4 GND (power) "Ground", 5 SDA (io) "Serial Data Input/Output. Requires external pullup resistor.", 6 SCL (in) "Serial Clock Input", 7 SQW/INT (oc) "Square-Wave/Interrupt Output. Requires external pullup resistor.", 8 VCC (power) "Power Supply"

## DS1339U-33+
designator U?
I2C Serial Real-Time Clock (RTC), 3.3V, 8-Pin uMax/uSOP, Pb-Free; Published: 6-Oct-2005; DatasheetVersion: rev.071205; PackageVersion: Mar-2002; PackageReference: 8uSOP; Publisher: Altium Limited; PackageDescription: Shrink Small Outline; 8 Leads; Body Width 3 mm; Pitch 0.65 mm; Code_JEDEC: MO-187C-AA; ComponentLink1Description: Manufacturer Link; ComponentLink1URL: http://www.maxim-ic.com/quick_view2.cfm/qv_pk/3470; ComponentLink2Description: Datasheet; ComponentLink2URL: http://pdfserv.maxim-ic.com/en/ds/DS1339-DS1339U.pdf
footprint 8uSOP (Shrink Small Outline; 8 Leads; Body Width 3 mm; Pitch 0.65 mm)
3D model 8uSOP (Shrink Small Outline; 8 Leads; Body Width 3 mm; Pitch 0.65 mm)
pins: 1 X1 (in) "Connection for 32.768kHz Quartz Crystal or external oscillator.", 2 X2 (out) "Connection for 32.768kHz Quartz Crystal.", 3 VBACKUP (power) "Secondary Power Supply. Hold between 1.3 & 3.7V. Ground if not required.", 4 GND (power) "Ground", 5 SDA (io) "Serial Data Input/Output. Requires external pullup resistor.", 6 SCL (in) "Serial Clock Input", 7 SQW/INT (oc) "Square-Wave/Interrupt Output. Requires external pullup resistor.", 8 VCC (power) "Power Supply"

## DS1384FP-120
designator U?
Watchdog Timekeeping Controller; Note: Pin number 2 is Not Connected (NC); Published: 13-Oct-2000; LatestRevisionDate: 13-Apr-2006; LatestRevisionNote: IPC-7351 Footprint Added.; DatasheetVersion: 5-Apr-1999; PackageReference: MQFP44NA; Publisher: Altium Limited; PackageDescription: 44-Pin Quad Flat Pack 0.8 mm Pitch; ComponentLink1Description: Manufacturer Link; ComponentLink1URL: http://www.maxim-ic.com/; ComponentLink2Description: Datasheet; ComponentLink2URL: http://pdfserv.maxim-ic.com/en/ds/DS1384.pdf; ComponentLink3Description: Discontinuation Notice; ComponentLink3URL: http://www.maxim-ic.com/qa/pdfs/non-obsolescence-letter.pdf
footprint MQFP44NA_N (QFP, 44-Leads, Body 10x10mm, Pitch 0.8mm, IPC Medium Density)
footprint MQFP44NA_L (QFP, 44-Leads, Body 10x10mm, Pitch 0.8mm, IPC High Density)
footprint MQFP44NA_M (QFP, 44-Leads, Body 10x10mm, Pitch 0.8mm, IPC Low Density)
3D model DS1384-MQFP44NA (44-Pin Quad Flat Pack 0.8 mm Pitch)
pins: 1 ~{INTA}/INTB (out), 2 NC, 3 A14 (in), 4 A12 (in), 5 A7 (in), 6 A6 (in), 7 A5 (in), 8 A4 (in), 9 A3 (in), 10 A2 (in), 11 A1 (in), 12 A0 (in), 13 DQ0 (io), 14 DQ1 (io), 15 DQ2 (io), 16 GND (power), 17 DQ3 (io), 18 DQ4 (io), 19 DQ5 (io), 20 DQ6 (io), 21 DQ7 (io), 22 ~{CEO} (in), 23 ~{OER} (in), 24 ~{CE} (in), 25 A10 (in), 26 ~{OE} (in), 27 A11 (in), 28 A9 (in), 29 A8 (in), 30 A13 (in), 31 ~{WE} (in), 32 VBAT1 (power), 33 A15 (in), 34 VBAT2 (power), 35 ~{PFO} (out), 36 SQW (hiz), 37 VCCO (power), 38 VCC (power), 39 ~{INTA} (out), 40 A16 (in), 41 GND (power), 42 X2 (in), 43 X1 (in), 44 GND (power)

## DS1384FP-150
designator U?
Watchdog Timekeeping Controller; Note: Pin number 2 is Not Connected (NC); Published: 13-Oct-2000; LatestRevisionDate: 13-Apr-2006; LatestRevisionNote: IPC-7351 Footprint Added.; DatasheetVersion: 5-Apr-1999; PackageReference: MQFP44NA; Publisher: Altium Limited; PackageDescription: 44-Pin Quad Flat Pack 0.8 mm Pitch; ComponentLink1Description: Manufacturer Link; ComponentLink1URL: http://www.maxim-ic.com/; ComponentLink2Description: Datasheet; ComponentLink2URL: http://pdfserv.maxim-ic.com/en/ds/DS1384.pdf; ComponentLink3Description: Discontinuation Notice; ComponentLink3URL: http://www.maxim-ic.com/qa/pdfs/non-obsolescence-letter.pdf
footprint MQFP44NA_N (QFP, 44-Leads, Body 10x10mm, Pitch 0.8mm, IPC Medium Density)
footprint MQFP44NA_L (QFP, 44-Leads, Body 10x10mm, Pitch 0.8mm, IPC High Density)
footprint MQFP44NA_M (QFP, 44-Leads, Body 10x10mm, Pitch 0.8mm, IPC Low Density)
3D model DS1384-MQFP44NA (44-Pin Quad Flat Pack 0.8 mm Pitch)
pins: 1 ~{INTA}/INTB (out), 2 NC, 3 A14 (in), 4 A12 (in), 5 A7 (in), 6 A6 (in), 7 A5 (in), 8 A4 (in), 9 A3 (in), 10 A2 (in), 11 A1 (in), 12 A0 (in), 13 DQ0 (io), 14 DQ1 (io), 15 DQ2 (io), 16 GND (power), 17 DQ3 (io), 18 DQ4 (io), 19 DQ5 (io), 20 DQ6 (io), 21 DQ7 (io), 22 ~{CEO} (in), 23 ~{OER} (in), 24 ~{CE} (in), 25 A10 (in), 26 ~{OE} (in), 27 A11 (in), 28 A9 (in), 29 A8 (in), 30 A13 (in), 31 ~{WE} (in), 32 VBAT1 (power), 33 A15 (in), 34 VBAT2 (power), 35 ~{PFO} (out), 36 SQW (hiz), 37 VCCO (power), 38 VCC (power), 39 ~{INTA} (out), 40 A16 (in), 41 GND (power), 42 X2 (in), 43 X1 (in), 44 GND (power)

## DS1384T-120
designator U?
Watchdog Timekeeping Controller; Note: Pin number 2 is Not Connected (NC); Published: 13-Oct-2000; LatestRevisionDate: 13-Apr-2006; LatestRevisionNote: IPC-7351 Footprint Added.; DatasheetVersion: 18-Aug-1995; PackageVersion: 1995; PackageReference: TQFP44; Publisher: Altium Limited; PackageDescription: 44-Pin Thin Quad Flat Pack 0.8 mm Pitch; ComponentLink1Description: Manufacturer Link; ComponentLink1URL: http://www.maxim-ic.com/; ComponentLink2Description: Datasheet; ComponentLink2URL: http://pdfserv.maxim-ic.com/en/ds/DS1384_C.pdf; ComponentLink3Description: Discontinuation Notice; ComponentLink3URL: http://www.maxim-ic.com/qa/pdfs/non-obsolescence-letter.pdf
footprint TQFP44_N (Thin QFP, 44-Leads, Body 10x10mm, Pitch 0.8mm, IPC Medium Density)
footprint TQFP44_L (Thin QFP, 44-Leads, Body 10x10mm, Pitch 0.8mm, IPC High Density)
footprint TQFP44_M (Thin QFP, 44-Leads, Body 10x10mm, Pitch 0.8mm, IPC Low Density)
3D model DS1384-TQFP44 (44-Pin Thin Quad Flat Pack 0.8 mm Pitch)
pins: 1 ~{INTA}/INTB (out), 2 NC, 3 A14 (in), 4 A12 (in), 5 A7 (in), 6 A6 (in), 7 A5 (in), 8 A4 (in), 9 A3 (in), 10 A2 (in), 11 A1 (in), 12 A0 (in), 13 DQ0 (io), 14 DQ1 (io), 15 DQ2 (io), 16 GND (power), 17 DQ3 (io), 18 DQ4 (io), 19 DQ5 (io), 20 DQ6 (io), 21 DQ7 (io), 22 ~{CEO} (in), 23 ~{OER} (in), 24 ~{CE} (in), 25 A10 (in), 26 ~{OE} (in), 27 A11 (in), 28 A9 (in), 29 A8 (in), 30 A13 (in), 31 ~{WE} (in), 32 VBAT1 (power), 33 A15 (in), 34 VBAT2 (power), 35 ~{PFO} (out), 36 SQW (hiz), 37 VCCO (power), 38 VCC (power), 39 ~{INTA} (out), 40 A16 (in), 41 GND (power), 42 X2 (in), 43 X1 (in), 44 GND (power)

## DS1384T-150
designator U?
Watchdog Timekeeping Controller; Note: Pin number 2 is Not Connected (NC); Published: 13-Oct-2000; LatestRevisionDate: 13-Apr-2006; LatestRevisionNote: IPC-7351 Footprint Added.; DatasheetVersion: 18-Aug-1995; PackageVersion: 1995; PackageReference: TQFP44; Publisher: Altium Limited; PackageDescription: 44-Pin Thin Quad Flat Pack 0.8 mm Pitch; ComponentLink1Description: Manufacturer Link; ComponentLink1URL: http://www.maxim-ic.com/; ComponentLink2Description: Datasheet; ComponentLink2URL: http://pdfserv.maxim-ic.com/en/ds/DS1384_C.pdf; ComponentLink3Description: Discontinuation Notice; ComponentLink3URL: http://www.maxim-ic.com/qa/pdfs/non-obsolescence-letter.pdf
footprint TQFP44_N (Thin QFP, 44-Leads, Body 10x10mm, Pitch 0.8mm, IPC Medium Density)
footprint TQFP44_L (Thin QFP, 44-Leads, Body 10x10mm, Pitch 0.8mm, IPC High Density)
footprint TQFP44_M (Thin QFP, 44-Leads, Body 10x10mm, Pitch 0.8mm, IPC Low Density)
3D model DS1384-TQFP44 (44-Pin Thin Quad Flat Pack 0.8 mm Pitch)
pins: 1 ~{INTA}/INTB (out), 2 NC, 3 A14 (in), 4 A12 (in), 5 A7 (in), 6 A6 (in), 7 A5 (in), 8 A4 (in), 9 A3 (in), 10 A2 (in), 11 A1 (in), 12 A0 (in), 13 DQ0 (io), 14 DQ1 (io), 15 DQ2 (io), 16 GND (power), 17 DQ3 (io), 18 DQ4 (io), 19 DQ5 (io), 20 DQ6 (io), 21 DQ7 (io), 22 ~{CEO} (in), 23 ~{OER} (in), 24 ~{CE} (in), 25 A10 (in), 26 ~{OE} (in), 27 A11 (in), 28 A9 (in), 29 A8 (in), 30 A13 (in), 31 ~{WE} (in), 32 VBAT1 (power), 33 A15 (in), 34 VBAT2 (power), 35 ~{PFO} (out), 36 SQW (hiz), 37 VCCO (power), 38 VCC (power), 39 ~{INTA} (out), 40 A16 (in), 41 GND (power), 42 X2 (in), 43 X1 (in), 44 GND (power)

## DS1385
designator U?
RAMified Real-Time Clock 4K X 8; Published: 13-Oct-2000; LatestRevisionDate: 06-Jun-2005; LatestRevisionNote: Stylized 3D Model Added.; DatasheetVersion: 8-May-1998; PackageVersion: 1999; PackageReference: DIP24W; Publisher: Altium Limited; PackageDescription: DIP; 24 Leads; Row Spacing 15.24 mm; Pitch 2.54 mm; ComponentLink1Description: Manufacturer Link; ComponentLink1URL: http://www.maxim-ic.com/
footprint DIP24W (DIP; 24 Leads; Row Spacing 15.24 mm; Pitch 2.54 mm)
3D model DIP24W (DIP; 24 Leads; Row Spacing 15.24 mm; Pitch 2.54 mm)
pins: 1 ~{OER} (in), 2 X1 (in), 3 X2 (in), 4 AD0 (io), 5 AD1 (io), 6 AD2 (io), 7 AD3 (io), 8 AD4 (io), 9 AD5 (io), 10 AD6 (io), 11 AD7 (io), 12 GND (power), 13 ~{CS} (in), 14 ~{ALE} (in), 15 ~{WR} (in), 16 GND (power), 17 ~{RD} (in), 18 ~{WER} (in), 19 ~{IRQ} (oc), 20 VBAT (power), 21 ~{AS}1 (in), 22 ~{AS}0 (in), 23 SQW (out), 24 VCC (power)

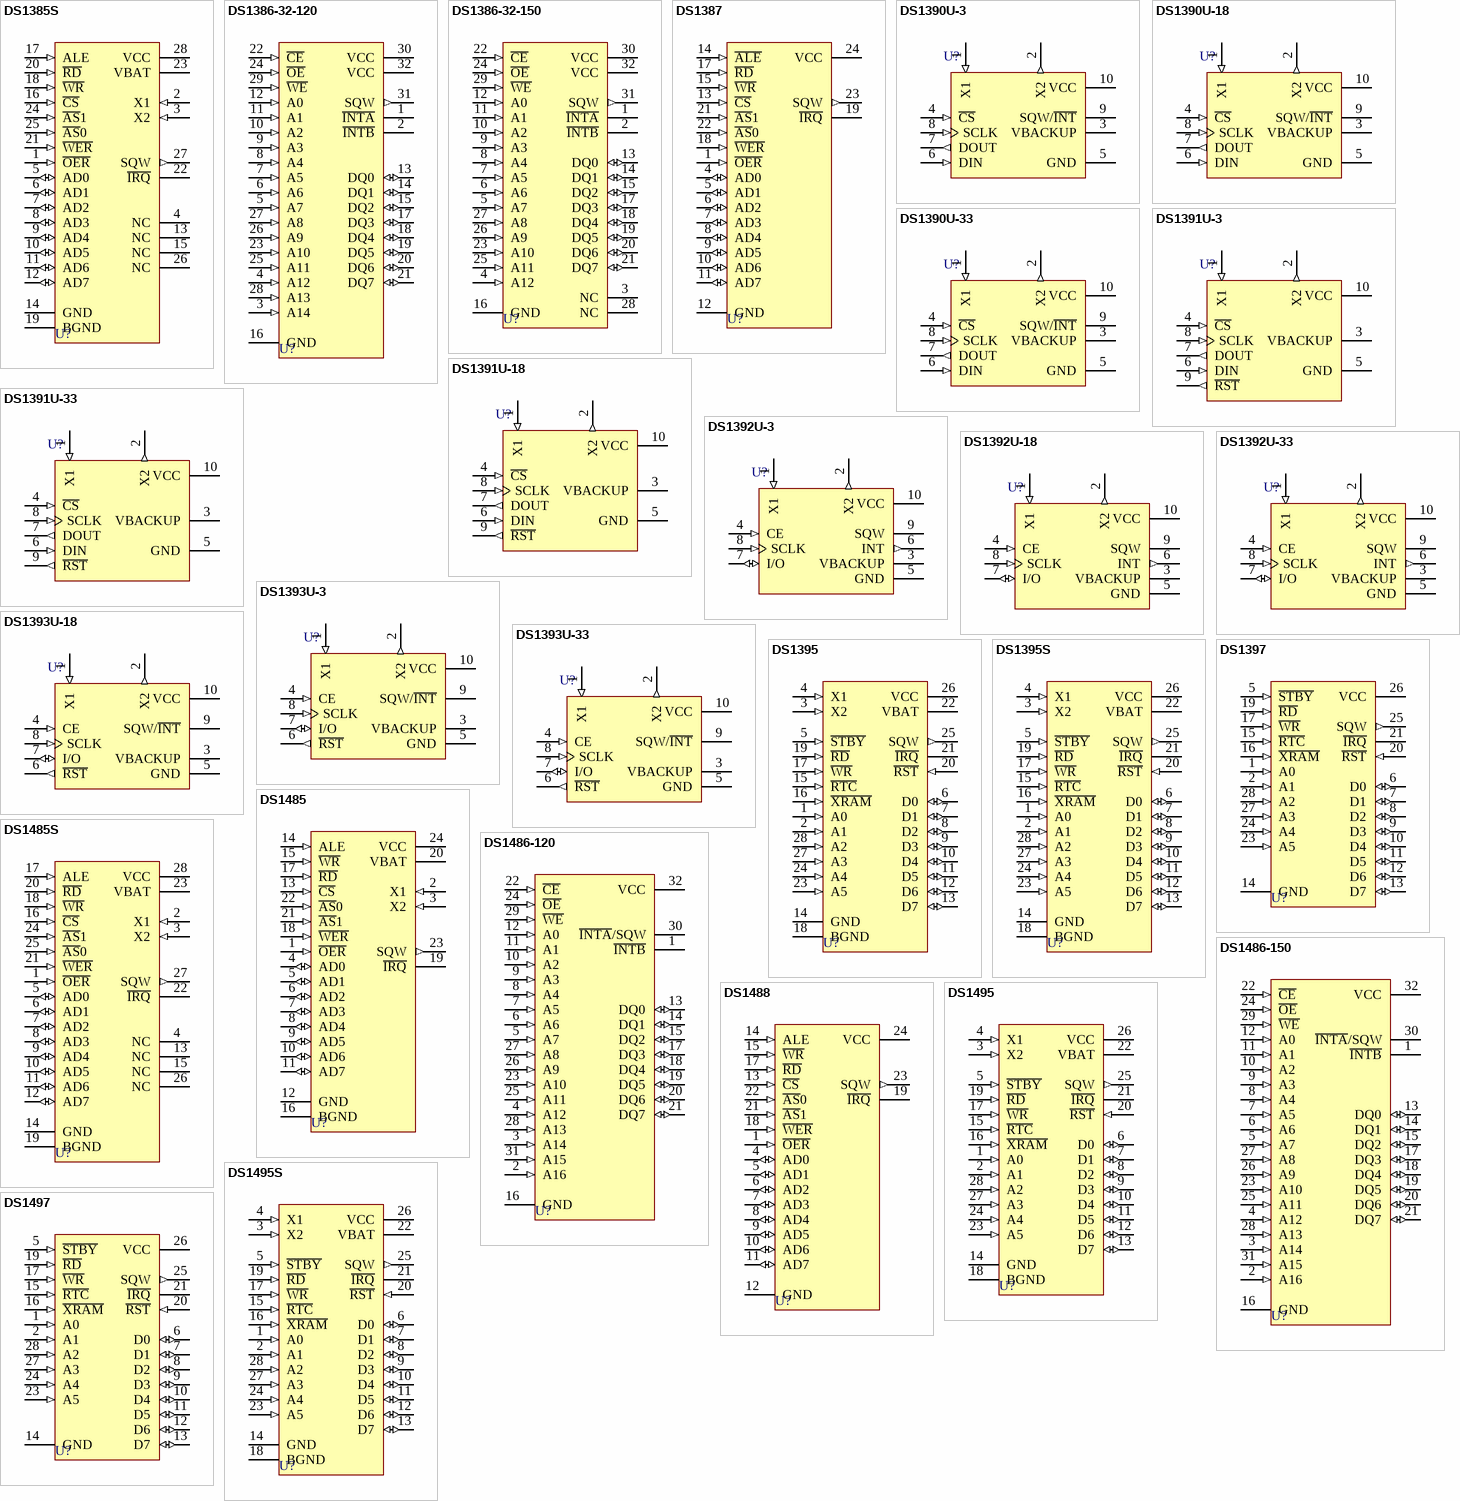
[diagram p3: symbols DS1385S to DS1497]

## DS1385S
designator U?
RAMified Real-Time Clock 4K X 8; Note: Pin numbers 4, 13, 15 and 26 are Not Connected (NC); Published: 13-Oct-2000; LatestRevisionDate: 13-Apr-2006; LatestRevisionNote: IPC-7351 Footprint Added.; DatasheetVersion: 8-May-1998; PackageVersion: 1999; PackageReference: SOIC28VW; Publisher: Altium Limited; PackageDescription: 28-Pin Small Outline Integrated Circuit 1.27 mm Pitch; ComponentLink1Description: Manufacturer Link; ComponentLink1URL: http://www.maxim-ic.com/
footprint SOIC28VW_N (SOIC, 28-Leads, Body 18.2x8.7mm, Pitch 1.27mm, IPC Medium Density)
footprint SOIC28VW_L (SOIC, 28-Leads, Body 18.2x8.7mm, Pitch 1.27mm, IPC High Density)
footprint SOIC28VW_M (SOIC, 28-Leads, Body 18.2x8.7mm, Pitch 1.27mm, IPC Low Density)
3D model SOIC28VW (28-Pin Small Outline Integrated Circuit 1.27 mm Pitch)
pins: 1 ~{OER} (in), 2 X1 (in), 3 X2 (in), 4 NC, 5 AD0 (io), 6 AD1 (io), 7 AD2 (io), 8 AD3 (io), 9 AD4 (io), 10 AD5 (io), 11 AD6 (io), 12 AD7 (io), 13 NC, 14 GND (power), 15 NC, 16 ~{CS} (in), 17 ALE (in), 18 ~{WR} (in), 19 BGND (power), 20 ~{RD} (in), 21 ~{WER} (in), 22 ~{IRQ} (oc), 23 VBAT (power), 24 ~{AS}1 (in), 25 ~{AS}0 (in), 26 NC, 27 SQW (out), 28 VCC (power)

## DS1386-32-120
designator U?
RAMified Watchdog Timekeeper; Published: 13-Oct-2000; LatestRevisionDate: 17-Jul-2002; LatestRevisionNote: PCB footprint, 'DIP-P32/Y1.2' replaced; Re-released for DXP Platform.; DatasheetVersion: 20-Oct-1999; PackageReference: ENDIP32A; Publisher: Altium Limited; PackageDescription: DIP; 32 Rectangular Pins; Row Space 15.24 mm; Pitch 2.54 mm; ComponentLink1Description: Manufacturer Link; ComponentLink1URL: http://www.maxim-ic.com/; ComponentLink2Description: Datasheet; ComponentLink2URL: http://pdfserv.maxim-ic.com/en/ds/DS1386-DS1386P.pdf; ComponentLink3Description: Discontinuation Notice; ComponentLink3URL: http://www.maxim-ic.com/qa/pdfs/non-obsolescence-letter.pdf
footprint ENDIP32A (DIP; 32 Rectangular Pins; Row Space 15.24 mm; Pitch 2.54 mm)
pins: 1 ~{INTA} (oc), 2 ~{INTB} (oc), 3 A14 (in), 4 A12 (in), 5 A7 (in), 6 A6 (in), 7 A5 (in), 8 A4 (in), 9 A3 (in), 10 A2 (in), 11 A1 (in), 12 A0 (in), 13 DQ0 (io), 14 DQ1 (io), 15 DQ2 (io), 16 GND (power), 17 DQ3 (io), 18 DQ4 (io), 19 DQ5 (io), 20 DQ6 (io), 21 DQ7 (io), 22 ~{CE} (in), 23 A10 (in), 24 ~{OE} (in), 25 A11 (in), 26 A9 (in), 27 A8 (in), 28 A13 (in), 29 ~{WE} (in), 30 VCC (power), 31 SQW (out), 32 VCC (power)

## DS1386-32-150
designator U?
RAMified Watchdog Timekeeper; Note: Pin numbers 3 and 28 are Not Connected (NC); Published: 13-Oct-2000; LatestRevisionDate: 17-Jul-2002; LatestRevisionNote: PCB footprint, 'DIP-P32/Y1.2' replaced; Re-released for DXP Platform.; DatasheetVersion: 20-Oct-1999; PackageReference: ENDIP32A; Publisher: Altium Limited; PackageDescription: DIP; 32 Rectangular Pins; Row Space 15.24 mm; Pitch 2.54 mm; ComponentLink1Description: Manufacturer Link; ComponentLink1URL: http://www.maxim-ic.com/; ComponentLink2Description: Datasheet; ComponentLink2URL: http://pdfserv.maxim-ic.com/en/ds/DS1386-DS1386P.pdf; ComponentLink3Description: Discontinuation Notice; ComponentLink3URL: http://www.maxim-ic.com/qa/pdfs/non-obsolescence-letter.pdf
footprint ENDIP32A (DIP; 32 Rectangular Pins; Row Space 15.24 mm; Pitch 2.54 mm)
pins: 1 ~{INTA} (oc), 2 ~{INTB} (oc), 3 NC, 4 A12 (in), 5 A7 (in), 6 A6 (in), 7 A5 (in), 8 A4 (in), 9 A3 (in), 10 A2 (in), 11 A1 (in), 12 A0 (in), 13 DQ0 (io), 14 DQ1 (io), 15 DQ2 (io), 16 GND (power), 17 DQ3 (io), 18 DQ4 (io), 19 DQ5 (io), 20 DQ6 (io), 21 DQ7 (io), 22 ~{CE} (in), 23 A10 (in), 24 ~{OE} (in), 25 A11 (in), 26 A9 (in), 27 A8 (in), 28 NC, 29 ~{WE} (in), 30 VCC (power), 31 SQW (out), 32 VCC (power)

## DS1387
designator U?
RAMified Real-Time Clock 4K X 8; Note: Pin numbers 2, 3, 16 and 20 are Not Connected (NC); Published: 13-Oct-2000; LatestRevisionDate: 17-Jul-2002; LatestRevisionNote: Re-released for DXP Platform.; DatasheetVersion: 8-May-1998; PackageReference: ENDIP24D; Publisher: Altium Limited; PackageDescription: DIP; 24 Rectangular pins (4 Absent); Row Space 15.24 mm; Pitch 2.54 mm; ComponentLink1Description: Manufacturer Link; ComponentLink1URL: http://www.maxim-ic.com/
footprint ENDIP24D (DIP; 24 Rectangular pins (4 Absent); Row Space 15.24 mm; Pitch 2.54 mm)
pins: 1 ~{OER} (in), 4 AD0 (io), 5 AD1 (io), 6 AD2 (io), 7 AD3 (io), 8 AD4 (io), 9 AD5 (io), 10 AD6 (io), 11 AD7 (io), 12 GND (power), 13 ~{CS} (in), 14 ~{ALE} (in), 15 ~{WR} (in), 17 ~{RD} (in), 18 ~{WER} (in), 19 ~{IRQ} (oc), 21 ~{AS}1 (in), 22 ~{AS}0 (in), 23 SQW (out), 24 VCC (power)

## DS1390U-3
designator U?
Real-Time Clock (RTC), Low-Voltage Serial-Peripheral Interface (SPI) with Trickle Charger, 3.0V, 10-Pin uMax/uSOP; Published: 6-Oct-2005; DatasheetVersion: rev.0 Jul-2004; PackageVersion: Mar-2002; PackageReference: 10uSOP; Publisher: Altium Limited; PackageDescription: Shrink Small Outline; 10 Leads; Body Width 3 mm; Pitch 0.5 mm; Code_JEDEC: MO-187C-BA; ComponentLink1Description: Manufacturer Link; ComponentLink1URL: http://www.maxim-ic.com/products/timers/real_time_clocks.cfm; ComponentLink2Description: Datasheet; ComponentLink2URL: http://pdfserv.maxim-ic.com/en/ds/DS1390-DS1393.pdf
footprint 10uSOP (Shrink Small Outline; 10 Leads; Body Width 3 mm; Pitch 0.5 mm)
3D model 10uSOP (Shrink Small Outline; 10 Leads; Body Width 3 mm; Pitch 0.5 mm)
pins: 1 X1 (in) "Internal Oscillator Input. Or connection to external 32.768kHz oscillator.", 2 X2 (out) "Internal Oscillator Output. Float if external oscillator connected to pin X1.", 3 VBACKUP (power) "DC Backup Power Input for Primary Cell.", 4 ~{CS} (in) "SPI Chip-Select Input. Used to select or deselect the device.", 5 GND (power) "Ground", 6 DIN (in) "SPI Data Input. Used to shift address and data into the device.", 7 DOUT (out) "SPI Data Output. Data is output when the device is in read mode.", 8 SCLK (in) "Serial Clock Input. Used to control the timing of data in and out.", 9 SQW/~{INT} (oc) "Square-Wave/Interrupt Output.", 10 VCC (power) "DC Power Pin for Primary Power Supply."

## DS1390U-18
designator U?
Real-Time Clock (RTC), Low-Voltage Serial-Peripheral Interface (SPI) with Trickle Charger, 1.8V, 10-Pin uMax/uSOP; Published: 6-Oct-2005; DatasheetVersion: rev.0 Jul-2004; PackageVersion: Mar-2002; PackageReference: 10uSOP; Publisher: Altium Limited; PackageDescription: Shrink Small Outline; 10 Leads; Body Width 3 mm; Pitch 0.5 mm; Code_JEDEC: MO-187C-BA; ComponentLink1Description: Manufacturer Link; ComponentLink1URL: http://www.maxim-ic.com/products/timers/real_time_clocks.cfm; ComponentLink2Description: Datasheet; ComponentLink2URL: http://pdfserv.maxim-ic.com/en/ds/DS1390-DS1393.pdf
footprint 10uSOP (Shrink Small Outline; 10 Leads; Body Width 3 mm; Pitch 0.5 mm)
3D model 10uSOP (Shrink Small Outline; 10 Leads; Body Width 3 mm; Pitch 0.5 mm)
pins: 1 X1 (in) "Internal Oscillator Input. Or connection to external 32.768kHz oscillator.", 2 X2 (out) "Internal Oscillator Output. Float if external oscillator connected to pin X1.", 3 VBACKUP (power) "DC Backup Power Input for Primary Cell.", 4 ~{CS} (in) "SPI Chip-Select Input. Used to select or deselect the device.", 5 GND (power) "Ground", 6 DIN (in) "SPI Data Input. Used to shift address and data into the device.", 7 DOUT (out) "SPI Data Output. Data is output when the device is in read mode.", 8 SCLK (in) "Serial Clock Input. Used to control the timing of data in and out.", 9 SQW/~{INT} (oc) "Square-Wave/Interrupt Output.", 10 VCC (power) "DC Power Pin for Primary Power Supply."

## DS1390U-33
designator U?
Real-Time Clock (RTC), Low-Voltage Serial-Peripheral Interface (SPI) with Trickle Charger, 3.3V, 10-Pin uMax/uSOP; Published: 6-Oct-2005; DatasheetVersion: rev.0 Jul-2004; PackageVersion: Mar-2002; PackageReference: 10uSOP; Publisher: Altium Limited; PackageDescription: Shrink Small Outline; 10 Leads; Body Width 3 mm; Pitch 0.5 mm; Code_JEDEC: MO-187C-BA; ComponentLink1Description: Manufacturer Link; ComponentLink1URL: http://www.maxim-ic.com/products/timers/real_time_clocks.cfm; ComponentLink2Description: Datasheet; ComponentLink2URL: http://pdfserv.maxim-ic.com/en/ds/DS1390-DS1393.pdf
footprint 10uSOP (Shrink Small Outline; 10 Leads; Body Width 3 mm; Pitch 0.5 mm)
3D model 10uSOP (Shrink Small Outline; 10 Leads; Body Width 3 mm; Pitch 0.5 mm)
pins: 1 X1 (in) "Internal Oscillator Input. Or connection to external 32.768kHz oscillator.", 2 X2 (out) "Internal Oscillator Output. Float if external oscillator connected to pin X1.", 3 VBACKUP (power) "DC Backup Power Input for Primary Cell.", 4 ~{CS} (in) "SPI Chip-Select Input. Used to select or deselect the device.", 5 GND (power) "Ground", 6 DIN (in) "SPI Data Input. Used to shift address and data into the device.", 7 DOUT (out) "SPI Data Output. Data is output when the device is in read mode.", 8 SCLK (in) "Serial Clock Input. Used to control the timing of data in and out.", 9 SQW/~{INT} (oc) "Square-Wave/Interrupt Output.", 10 VCC (power) "DC Power Pin for Primary Power Supply."